# Altium integrated library ESC_mark2.IntLib: 1 symbol
Pins are listed as number, name and electrical type; pins without a type are passive.

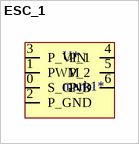
[diagram p0: symbol ESC_1]

## ESC_1
designator U*, comment mark1*
this is just a footprint made for the esc to allow a interface, where the esc can be on the board
footprint PCBComponent_1
pins: 0 S_GND (power) "GND", 1 PWM (power), 2 P_GND (power), 3 P_VIN (power), 4 P_1 (power), 5 P_2 (power), 6 P_3 (power)